# Altium integrated library MMUN2214LT1G.IntLib: 1 symbol
Pins are listed as number, name and electrical type; pins without a type are passive.

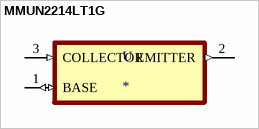
[diagram p0: symbol MMUN2214LT1G]

## MMUN2214LT1G
designator U
Pre-Biased Bipolar Transistor _BJT_ NPN - Pre-Biased 50V 100mA 246mW Surface Mount SOT-23-3 _TO-236_; MP: MMUN2214LT1G; MF: ON Semiconductor; Availability: Unavailable; Package: SOT-23 ON Semiconductor; SnapEDA_Link: https://www.snapeda.com/parts/MMUN2214LT1G/ON%20Semiconductor/view-part/283430/?ref=snap; Value: *; Price: None
footprint SOT95P237X111-3N
pins: 1 BASE (io), 2 EMITTER (out), 3 COLLECTOR (in)